# Altium footprint library DeSCENTActive.PcbLib: 28 footprints (part 2 of 2)
Each footprint in its own frame and in the unit in brackets; x right, y up, seen from the top. Pads: shape width x height; smd on the part's side, far side on the other; paste and mask are expansions set on the pad; w line width, h text height; cw(c..) or ccw(c..) is an arc to the next point about the centre after c.
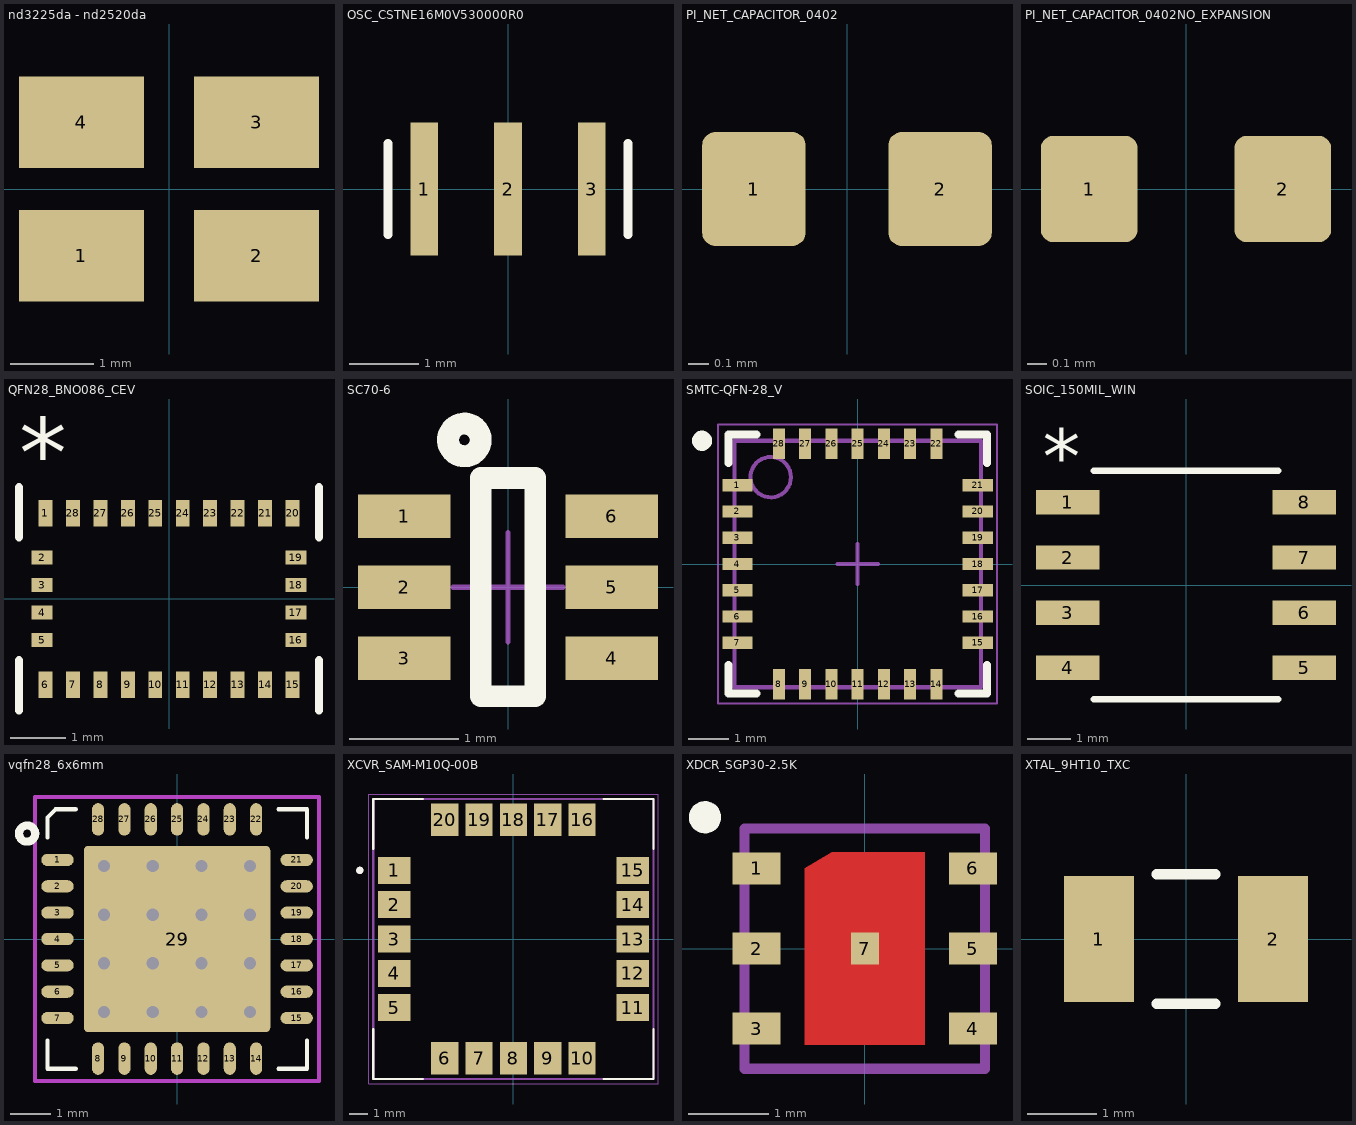
[diagram p1: the footprints below, top view; thin cyan lines are the x and y axes]

## nd3225da - nd2520da [mm] "Crystal SMD 3.2x2.5mm compatible with 2.5x2.0mm"
height 0.8
pads (4):
  rect 1.5x1.1 smd mask+0.05: 1(-1.05,-0.8) 2(1.05,-0.8) 3(1.05,0.8) 4(-1.05,0.8)
3D body: height 1, standoff 0, extent -1.6,-1.25 1.6,1.25

## OSC_CSTNE16M0V530000R0 [mm]
pads (3):
  rect 0.4x1.9 smd: 1(-1.2,0) 2(0,0) 3(1.2,0)
Top Overlay:
  lines w0.127: -1.72,-0.65 -1.72,0.65 ; 1.72,-0.65 1.72,0.65

## PI_NET_CAPACITOR_0402 [mm] "Chip Capacitor, Body 1.0x0.5mm, Height 0.6mm, NO SILK"
height 0.6
pads (2):
  rrect25% 0.5x0.55 smd: 1(-0.45,0) 2(0.45,0)

## PI_NET_CAPACITOR_0402NO_EXPANSION [mm] "Chip Capacitor, Body 1.0x0.5mm, Height 0.6mm, NO SILK"
height 0.6
pads (2):
  rrect25% 0.5x0.55 smd mask+0: 1(-0.5,0) 2(0.5,0)

## QFN28_BNO086_CEV [mil]
pads (28):
  rect 10x19 smd paste+0 mask+0: 1(-88.58,61.5) 6(-88.58,-61.5) 7(-68.9,-61.5) 8(-49.21,-61.5) 9(-29.53,-61.5) 10(-9.84,-61.5) 11(9.84,-61.5) 12(29.53,-61.5) 13(49.21,-61.5) 14(68.9,-61.5) 15(88.58,-61.5) 20(88.58,61.5) 21(68.9,61.5) 22(49.21,61.5) 23(29.53,61.5) 24(9.84,61.5) 25(-9.84,61.5) 26(-29.53,61.5) 27(-49.21,61.5) 28(-68.9,61.5)
  rect 15x10 smd paste+0 mask+0: 2(-91,29.53) 3(-91,9.84) 4(-91,-9.84) 5(-91,-29.53) 16(91,-29.53) 17(91,-9.84) 18(91,9.84) 19(91,29.53)
Top Overlay:
  lines w6: -107.5,-80 -107.5,-44.05 ; -107.5,44.05 -107.5,80 ; 107.5,-80 107.5,-44.05 ; 107.5,44.05 107.5,80
  text "*" at -107.5,80 h50

## SC70-6 [mm] "SC70 6-Leads, Body 2.0x1.25mm, Pitch 0.65mm"
height 1.45
pads (6):
  rect 0.85x0.4 smd mask+0.05: 1(-0.95,0.65) 2(-0.95,0) 3(-0.95,-0.65) 4(0.95,-0.65) 5(0.95,0) 6(0.95,0.65)
Top Overlay:
  circle w0.2: c-0.4,1.35 r0.15
  lines w0.2: -0.25,-1 -0.25,1 0.25,1 0.25,-1 -0.25,-1
Mechanical 15:
  lines w0.05: -0.5,0 0.5,0 ; 0,-0.5 0,0.5
3D body: height 1.45, standoff 0, extent -0.625,-1 0.625,1

## SMTC-QFN-28_V [mm] "QFN, 28-Leads, Body 6.1x6.1mm, Pitch 0.65mm, Thermal Pad 4.8x4.8mm"
height 1
pads (28):
  rect 0.75x0.3 smd: 1(-2.975,1.95) 2(-2.975,1.3) 3(-2.975,0.65) 4(-2.975,0) 5(-2.975,-0.65) 6(-2.975,-1.3) 7(-2.975,-1.95) 15(2.975,-1.95) 16(2.975,-1.3) 17(2.975,-0.65) 18(2.975,0) 19(2.975,0.65) 20(2.975,1.3) 21(2.975,1.95)
  rect 0.3x0.75 smd: 8(-1.95,-2.975) 9(-1.3,-2.975) 10(-0.65,-2.975) 11(0,-2.975) 12(0.65,-2.975) 13(1.3,-2.975) 14(1.95,-2.975) 22(1.95,2.975) 23(1.3,2.975) 24(0.65,2.975) 25(0,2.975) 26(-0.65,2.975) 27(-1.3,2.975) 28(-1.95,2.975)
Top Overlay:
  circle w0.25: c-3.85,3.05 r0.125
  lines w0.2: -3.2,-2.5 -3.2,-3.2 -2.5,-3.2 ; -3.2,2.5 -3.2,3.2 -2.5,3.2 ; 2.5,-3.2 3.2,-3.2 3.2,-2.5 ; 2.5,3.2 3.2,3.2 3.2,2.5
Mechanical 13:
  circle w0.1: c-2.15,2.15 r0.5
  lines w0.1: -3.05,-3.05 3.05,-3.05 3.05,3.05 -3.05,3.05 -3.05,-3.05
Mechanical 15:
  lines w0.05: -3.45,-3.45 3.45,-3.45 3.45,3.45 -3.45,3.45 -3.45,-3.45
  lines w0.1: -0.5,0 0.5,0 ; 0,-0.5 0,0.5

## SOIC_150MIL_WIN [mil]
pads (8):
  rect 57.5x22 smd paste+0 mask+0: 1(-107.25,75) 2(-107.25,25) 3(-107.25,-25) 4(-107.25,-75) 5(107.25,-75) 6(107.25,-25) 7(107.25,25) 8(107.25,75)
Top Overlay:
  lines w6: -83.5,-103.5 83.5,-103.5 ; -83.5,103.5 83.5,103.5
  text "*" at -129.75,92 h50

## vqfn28_6x6mm [mm] "28 Leads, Body 6.0x6.0mm, Pitch 0.65mm, VQFN28"
height 1
pads (29):
  oval 0.8x0.3 smd mask+0.05: 1(-2.95,1.95) 2(-2.95,1.3) 3(-2.95,0.65) 4(-2.95,0) 5(-2.95,-0.65) 6(-2.95,-1.3) 7(-2.95,-1.95) 15(2.95,-1.95) 16(2.95,-1.3) 17(2.95,-0.65) 18(2.95,0) 19(2.95,0.65) 20(2.95,1.3) 21(2.95,1.95)
  oval 0.3x0.8 smd mask+0.05: 8(-1.95,-2.95) 9(-1.3,-2.95) 10(-0.65,-2.95) 11(0,-2.95) 12(0.65,-2.95) 13(1.3,-2.95) 14(1.95,-2.95) 22(1.95,2.95) 23(1.3,2.95) 24(0.65,2.95) 25(0,2.95) 26(-0.65,2.95) 27(-1.3,2.95) 28(-1.95,2.95)
  rrect5% 4.6x4.6 smd paste-3.3 mask+0.05: 29(0,0)
via 0.6,-1.8 diameter 0.6 hole 0.3
via 1.8,-0.6 diameter 0.6 hole 0.3
via -1.8,1.8 diameter 0.6 hole 0.3
via -1.8,-0.6 diameter 0.6 hole 0.3
via -1.8,0.6 diameter 0.6 hole 0.3
via 0.6,-0.6 diameter 0.6 hole 0.3
via 1.8,-1.8 diameter 0.6 hole 0.3
via -0.6,-1.8 diameter 0.6 hole 0.3
via -1.8,-1.8 diameter 0.6 hole 0.3
via -0.6,1.8 diameter 0.6 hole 0.3
via -0.6,0.6 diameter 0.6 hole 0.3
via -0.6,-0.6 diameter 0.6 hole 0.3
via 0.6,0.6 diameter 0.6 hole 0.3
via 0.6,1.8 diameter 0.6 hole 0.3
via 1.8,1.8 diameter 0.6 hole 0.3
via 1.8,0.6 diameter 0.6 hole 0.3
Top Overlay:
  circle w0.2: c-3.7,2.6 r0.2
  lines w0.1: -3.2,-2.5 -3.2,-3.2 -2.5,-3.2 ; -3.2,2.5 -3.2,3 -3,3.2 -2.5,3.2 ; 2.5,-3.2 3.2,-3.2 3.2,-2.5 ; 2.5,3.2 3.2,3.2 3.2,2.5
Top Paste:
  region: -1.6,-0.8 -1.6,-1.6 -0.8,-1.6 -0.8,-0.8
  region: 0.8,-0.8 0.8,-1.6 1.6,-1.6 1.6,-0.8
  region: -0.4,-0.8 -0.4,-1.6 0.4,-1.6 0.4,-0.8
  region: 0.8,0.4 0.8,-0.4 1.6,-0.4 1.6,0.4
  region: -1.6,1.6 -1.6,0.8 -0.8,0.8 -0.8,1.6
  region: -0.4,1.6 -0.4,0.8 0.4,0.8 0.4,1.6
  region: -1.6,0.4 -1.6,-0.4 -0.8,-0.4 -0.8,0.4
  region: -0.4,0.4 -0.4,-0.4 0.4,-0.4 0.4,0.4
  region: 0.8,1.6 0.8,0.8 1.6,0.8 1.6,1.6
Mechanical 15 keep-out:
  lines w0.1: -3.5,-3.5 -3.5,3.5 3.5,3.5 3.5,-3.5 -3.5,-3.5
3D body: height 1, standoff 0.05, extent -3,-3 3,3

## XCVR_SAM-M10Q-00B [mm]
height 6.8
pads (20):
  rect 1.8x1.5 smd paste-2 mask+0.05: 1(-6.6,3.8) 2(-6.6,1.9) 3(-6.6,0) 4(-6.6,-1.9) 5(-6.6,-3.8) 11(6.6,-3.8) 12(6.6,-1.9) 13(6.6,0) 14(6.6,1.9) 15(6.6,3.8)
  rect 1.5x1.8 smd paste-2 mask+0.05: 6(-3.8,-6.6) 7(-1.9,-6.6) 8(0,-6.6) 9(1.9,-6.6) 10(3.8,-6.6) 16(3.8,6.6) 17(1.9,6.6) 18(0,6.6) 19(-1.9,6.6) 20(-3.8,6.6)
Top Overlay:
  circle w0.2: c-8.5,3.8 r0.1
  lines w0.127: -7.75,-5 -7.75,-7.75 -5,-7.75 ; -7.75,5 -7.75,7.75 -5,7.75 ; 5,-7.75 7.75,-7.75 7.75,-5 ; 5,7.75 7.75,7.75 7.75,5
Top Paste:
  drawing of 80 lines, arcs and shapes, not listed
Mechanical 13:
  circle w0.2: c-8.5,3.8 r0.1
  lines w0.127: -7.75,-7.75 -7.75,7.75 7.75,7.75 7.75,-7.75 -7.75,-7.75
  text "Note: Stencil is based on 120um stencil thickness" at -12,-12 h0.81
Mechanical 15:
  lines w0.05: -8,-8 -8,8 8,8 8,-8 -8,-8

## XDCR_SGP30-2.5K [mm]
pads (7):
  rect 0.6x0.4 smd paste+0: 1(-1.35,1) 2(-1.35,0) 3(-1.35,-1) 4(1.35,-1) 5(1.35,0) 6(1.35,1)
  rect 0.35x0.4 smd paste+0 mask+0: 7(0,0)
Top Layer:
  region: 0.75,1.2 0.75,-1.2 -0.75,-1.2 -0.75,1 -0.415,1.2
Top Overlay:
  circle w0.2: c-1.994,1.638 r0.1
  circle w0.2: c-1.994,1.638 r0.1
Top Paste:
  region: -1.629,-0.2 -1.629,0.2 -1.079,0.2 -1.079,-0.2
  region: -1.621,0.8 -1.621,1.194 -1.071,1.194 -1.071,0.8
  region: -1.629,-1.203 -1.629,-0.803 -1.079,-0.803 -1.079,-1.203
  region: 1.621,1.2 1.621,0.8 1.071,0.8 1.071,1.2
  region: 1.621,0.197 1.621,-0.203 1.071,-0.203 1.071,0.197
  region: 1.621,-0.8 1.621,-1.2 1.071,-1.2 1.071,-0.8
  region: 0.525,0.75 0.525,-0.75 -0.525,-0.75 -0.525,0.54 -0.315,0.75
Top Solder:
  region: 0.75,1.2 0.75,-1.2 -0.75,-1.2 -0.75,1 -0.415,1.2
Top Courtyard:
  lines w0.127: -1.5,-1.5 1.5,-1.5 ; -1.5,-1.5 -1.5,1.5 ; -1.5,-1.5 1.5,-1.5 ; -1.5,1.5 1.5,1.5 ; -1.5,1.5 1.5,1.5 ; 1.5,-1.5 1.5,1.5

## XTAL_9HT10_TXC [mil]
pads (2):
  rect 39.5x71 smd paste+0 mask+0: 1(-49.25,0) 2(49.25,0)
Top Overlay:
  lines w6: -16.44,-36.5 16.44,-36.5 ; -16.44,36.5 16.44,36.5